# Altium footprint library QFN65P500X500X80-21N.PcbLib: 1 footprints
Each footprint in its own frame and in the unit in brackets; x right, y up, seen from the top. Pads: shape width x height; smd on the part's side, far side on the other; paste and mask are expansions set on the pad; w line width, h text height; cw(c..) or ccw(c..) is an arc to the next point about the centre after c.
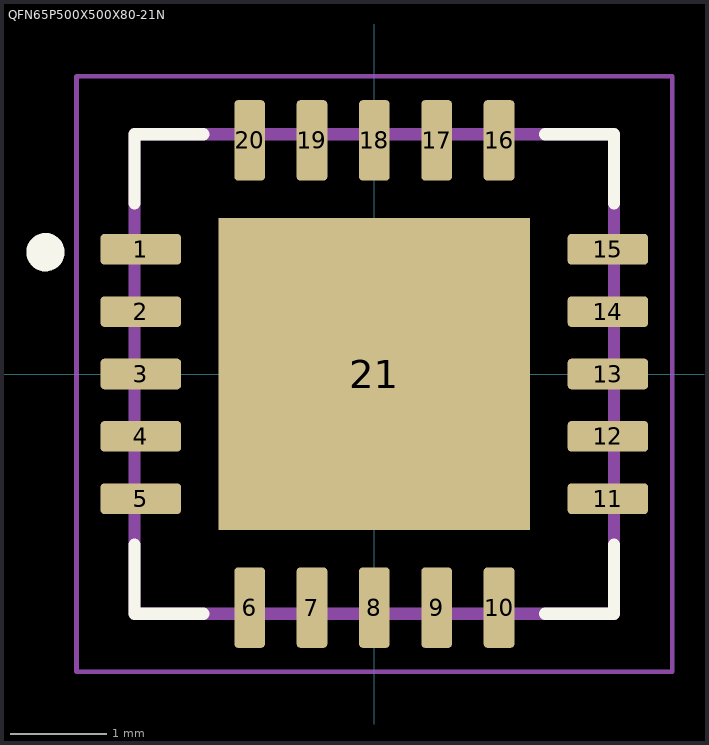
[diagram p0: the footprint, top view; thin cyan lines are the x and y axes]

## QFN65P500X500X80-21N [mm]
height 0.8
pads (21):
  rrect25% 0.84x0.32 smd: 1(-2.435,1.3) 2(-2.435,0.65) 3(-2.435,0) 4(-2.435,-0.65) 5(-2.435,-1.3) 11(2.435,-1.3) 12(2.435,-0.65) 13(2.435,0) 14(2.435,0.65) 15(2.435,1.3)
  rrect25% 0.32x0.84 smd: 6(-1.3,-2.435) 7(-0.65,-2.435) 8(0,-2.435) 9(0.65,-2.435) 10(1.3,-2.435) 16(1.3,2.435) 17(0.65,2.435) 18(0,2.435) 19(-0.65,2.435) 20(-1.3,2.435)
  rect 3.25x3.25 smd paste-0.595: 21(0,0)
Top Overlay:
  circle w0.2: c-3.429,1.27 r0.1
  lines w0.127: -2.5,-1.78 -2.5,-2.5 -1.78,-2.5 ; -2.5,1.78 -2.5,2.5 -1.78,2.5 ; 1.78,-2.5 2.5,-2.5 2.5,-1.78 ; 1.78,2.5 2.5,2.5 2.5,1.78
Assembly Top:
  lines w0.127: -2.5,-2.5 2.5,-2.5 2.5,2.5 -2.5,2.5 -2.5,-2.5
Courtyard Top:
  lines w0.05: -3.105,-3.105 -3.105,3.105 3.105,3.105 3.105,-3.105 -3.105,-3.105
3D body "step_temp.STEP": height 0.8, standoff 0, extent -2.5,-2.5 2.5,2.5